# EAGLE library part TH_DS_LIBRARIES_ITSYBITSY_5V (library Helmet_Drop_V1.5)
Adafruit ItsyBitsy 32u4 - 5V 16MHz https://www.adafruit.com/product/3677
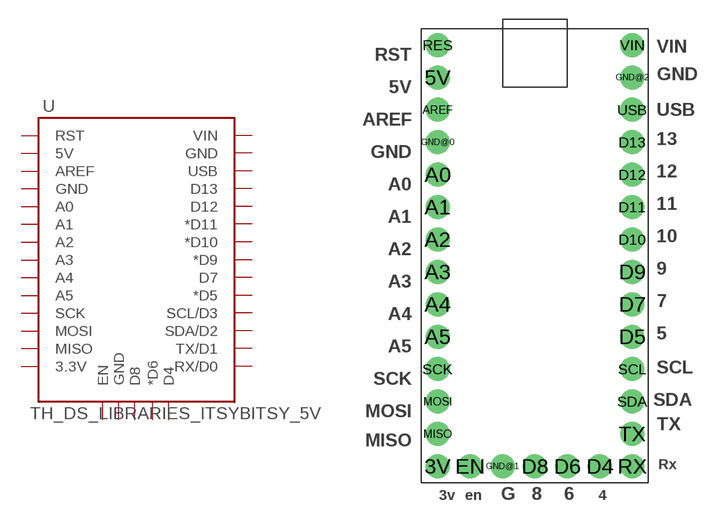
[diagram p1: symbol with the pads of TH_DS_LIBRARIES_ADAFRUIT_LENOARDO; footprint TH_DS_LIBRARIES_ADAFRUIT_LENOARDO]

Designator prefix U

## TH_DS_LIBRARIES_ITSYBITSY_5V  [TH_DS_LIBRARIES_ADAFRUIT_LENOARDO]
3V  3.3V
5V  5V
A0  A0
A1  A1
A2  A2
A3  A3
A4  A4
A5  A5
AREF  AREF
D4  D4
D5  *D5
D6  *D6
D7  D7
D8  D8
D9  *D9
D10  *D10
D11  *D11
D12  D12
D13  D13
EN  EN
GND@0  GND
GND@1  GND
GND@2  GND
MISO  MISO
MOSI  MOSI
RES  RST
RX  RX/D0
SCK  SCK
SCL  SCL/D3
SDA  SDA/D2
TX  TX/D1
USB  USB
VIN  VIN

## Footprint TH_DS_LIBRARIES_ADAFRUIT_LENOARDO (pad centres in mm)
drill 1.016 pad 1.88: 3V -10.16,-21.59; 5V -10.16,8.89; A0 -10.16,1.27; A1 -10.16,-1.27; A2 -10.16,-3.81; A3 -10.16,-6.35; A4 -10.16,-8.89; A5 -10.16,-11.43; AREF -10.16,6.35; D4 2.54,-21.59; D5 5.08,-11.43; D6 0,-21.59; D7 5.08,-8.89; D8 -2.54,-21.59; D9 5.08,-6.35; D10 5.08,-3.81; D11 5.08,-1.27; D12 5.08,1.27; D13 5.08,3.81; EN -7.62,-21.59; GND@0 -10.16,3.81; GND@1 -5.08,-21.59; GND@2 5.08,8.89; MISO -10.16,-19.05; MOSI -10.16,-16.51; RES -10.16,11.43; RX 5.08,-21.59; SCK -10.16,-13.97; SCL 5.08,-13.97; SDA 5.08,-16.51; TX 5.08,-19.05; USB 5.08,6.35; VIN 5.08,11.43